# Altium schematic symbol library SCH - PASSIVES - POLARISED CAPACITOR.SCHLIB: 1 symbol
Pins are listed as number, name and electrical type; pins without a type are passive.

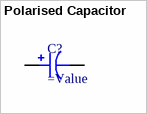
[diagram p0: symbol Polarised Capacitor]

## Polarised Capacitor
designator C?
SMT Polarised Capacitor
footprint CAP ALUM 8.3MM (Aluminum Electrolytic Capacitor, Body 8.30x8.30x10.50mm, IPC Low Density)
pins: 1, 2